# Altium footprint library HEADER 2PIN.PcbLib: 2 footprints
Each footprint in its own frame and in the unit in brackets; x right, y up, seen from the top. Pads: shape width x height; smd on the part's side, far side on the other; paste and mask are expansions set on the pad; w line width, h text height; cw(c..) or ccw(c..) is an arc to the next point about the centre after c.
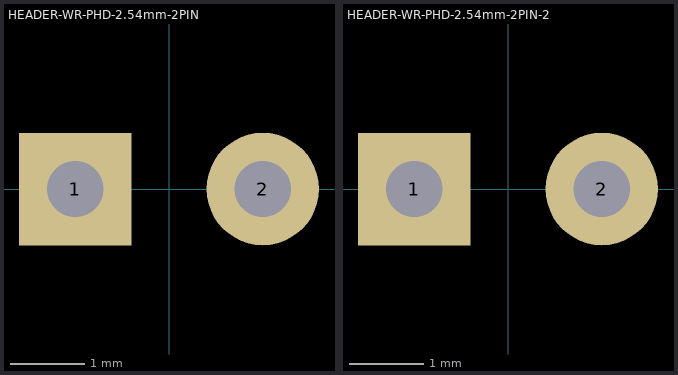
[diagram p0: the footprints below, top view; thin cyan lines are the x and y axes]

## HEADER-WR-PHD-2.54mm-2PIN [mil] "HEADER 2PIN"
pads (2):
  rect 60x60 hole 30: 1(-50,0)
  round 60 hole 30: 2(50,0)
3D body "HEADER-WR-PHD-2.54mm-2PIN.stp": height 336.22, standoff -118.11, extent -100,-50 100,50

## HEADER-WR-PHD-2.54mm-2PIN-2 [mil] "HEADER 2PIN"
pads (2):
  rect 60x60 hole 30: 1(-50,0)
  round 60 hole 30: 2(50,0)